# Altium footprint library THD Voltage Reference and Regulators.PcbLib: 23 footprints (part 2 of 2)
Each footprint in its own frame and in the unit in brackets; x right, y up, seen from the top. Pads: shape width x height; smd on the part's side, far side on the other; paste and mask are expansions set on the pad; w line width, h text height; cw(c..) or ccw(c..) is an arc to the next point about the centre after c.
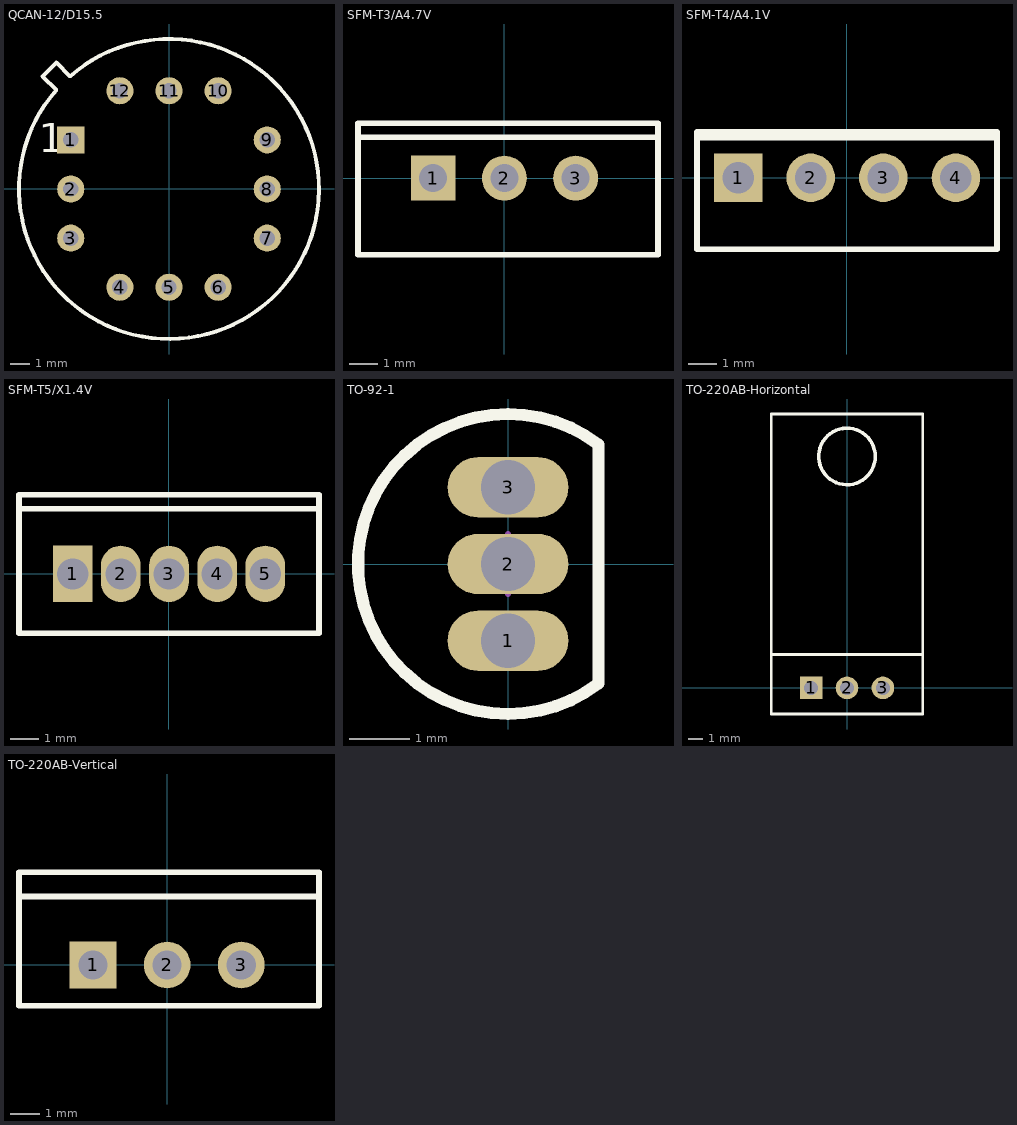
[diagram p1: the footprints below, top view; thin cyan lines are the x and y axes]

## QCAN-12/D15.5 [mm]
pads (12):
  rect 1.4x1.4 hole 0.8: 1(-5.075,2.537)
  round 1.4 hole 0.8: 2(-5.075,0) 3(-5.075,-2.537) 4(-2.537,-5.075) 5(0,-5.075) 6(2.538,-5.075) 7(5.075,-2.537) 8(5.075,0) 9(5.075,2.537) 10(2.538,5.075) 11(0,5.075) 12(-2.538,5.075)
Top Overlay:
  lines w0.2: -6.529,5.822 -5.822,5.115 ccw(c0,0) -5.115,5.822 -5.822,6.529 -6.529,5.822
  text "1" at -6.731,1.905 h1.5
3D body "QCAN-12 D15.5.STEP": height 4.95, standoff -2.75, extent -7.489,-7.494 7.489,7.494

## SFM-T3/A4.7V [mm]
pads (3):
  rect 1.6x1.6 hole 1: 1(-2.54,0)
  round 1.6 hole 1: 2(0,0) 3(2.54,0)
Top Overlay:
  lines w0.2: -5.223,1.461 5.477,1.461 ; -5.223,-2.739 5.477,-2.739 5.477,1.961 -5.223,1.961 -5.223,-2.739
3D body "SFM-T3 A4.7V.STEP": height 21.52, standoff -2.53, extent -4.971,-2.549 5.207,1.279

## SFM-T4/A4.1V [mm]
pads (4):
  rect 1.7x1.7 hole 1.1: 1(-3.81,0)
  round 1.7 hole 1.1: 2(-1.27,0) 3(1.27,0) 4(3.81,0)
Top Overlay:
  rectangle: -5.25,1.311 5.25,1.711
  lines w0.2: -5.25,1.6 -5.25,-2.5 5.25,-2.5 5.25,1.6
3D body "SFM-T4 A4.1V.STEP": height 21.52, standoff -2.53, extent -5.112,-2.574 5.066,1.255

## SFM-T5/X1.4V [mm]
pads (5):
  rect 1.4x2 hole 1.1: 1(-3.4,0)
  oval 1.4x2 hole 1.1: 2(-1.7,0) 3(0,0) 4(1.7,0) 5(3.4,0)
Top Overlay:
  lines w0.2: -5.3,2.3 5.3,2.3 ; -5.3,-2.1 5.3,-2.1 5.3,2.8 -5.3,2.8 -5.3,-2.1
3D body "TO220-5T.step": height 19.54, standoff -4.03, extent -5.06,-1.55 5.06,2.907

## TO-92-1 [mm] "TO, Flat Index; 3 In-Line, Axial Leads; Body Dia. 4.5mm; Leads 0.51 x 0.48 mm (max)"
height 6.86
pads (3):
  oval 2x1 hole 0.9: 1(0,-1.27) 2(0,0) 3(0,1.27)
Top Overlay:
  lines w0.2: 1.5,-1.98 cw(c0,0) 1.5,1.98 1.5,-1.98
Mechanical 15:
  lines w0.1: -0.5,0 0.5,0 ; 0,-0.5 0,0.5
3D body "TO-92-6.STEP": height 8.27, standoff -1.73, extent -2.413,-2.5 1.588,2.5

## TO-220AB-Horizontal [mm] "TO, Thru-Hole, Vertical, Heatsink Mounted; 3 In-Line Leads; Pitch 2.54 mm"
height 19.3
pads (3):
  rect 1.6x1.6 hole 1: 1(-2.54,0)
  round 1.6 hole 1: 2(0,0) 3(2.54,0)
Top Overlay:
  circle w0.254: c0,16.36 r2
  lines w0.2: -5.35,2.35 5.35,2.35 ; -5.35,-1.85 5.35,-1.85 5.35,19.36 -5.35,19.36 -5.35,-1.85
3D body "TO-220AB-Horizontal.STEP": height 4.2, standoff -3, extent -5.08,-0.25 5.08,19.24

## TO-220AB-Vertical [mm] "TO, Thru-Hole, Vertical, Heatsink Mounted; 3 In-Line Leads; Pitch 2.54 mm"
height 19.3
pads (3):
  rect 1.6x1.6 hole 1: 1(-2.54,0)
  round 1.6 hole 1: 2(0,0) 3(2.54,0)
Top Overlay:
  lines w0.2: -5.08,2.35 5.08,2.35 ; -5.08,-1.397 5.207,-1.397 5.207,3.175 -5.08,3.175 -5.08,-1.397
3D body "TO-220AB-Vertical.STEP": height 18.54, standoff -3.81, extent -5.08,-1.397 5.08,3.175